# Altium schematic symbol library LP2985.SchLib: 1 symbol
Pins are listed as number, name and electrical type; pins without a type are passive.

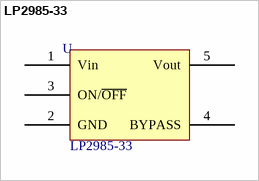
[diagram p0: symbol LP2985-33]

## LP2985-33
designator U  value LP2985-33  (hidden comment: *)
Manufacturer Code: LP2985-33DBVR; Manufacturer: Texas Instruments; Output Current: 150mA; Input Voltage: 16V Max.; Output Voltage: 3.3V; Farnell Code: 2395925; Unit Price: 0,55 €; MOQ: 1
footprint SOT23-5
pins: 1 Vin, 2 GND, 3 ON/~{OFF}, 4 BYPASS, 5 Vout